# EAGLE library part DRF1278F (library HAB)
DRF1278F Module for SX1278 LoRA radio
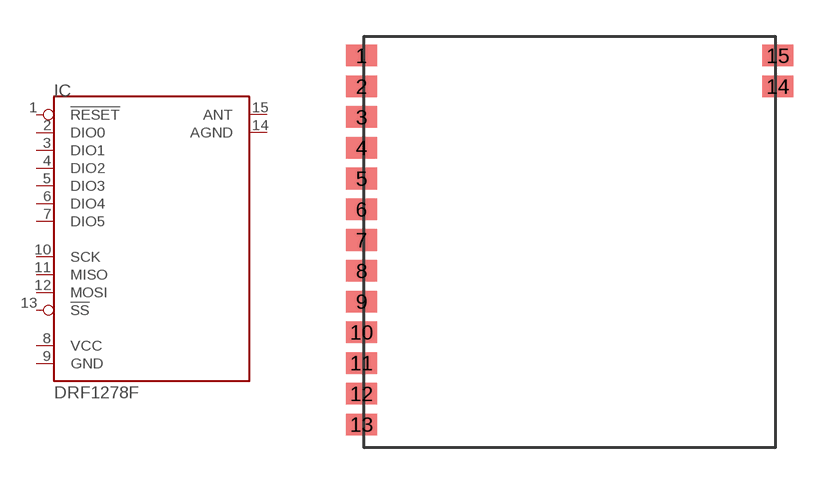
[diagram p16: symbol with the pads of DRF1278F; footprint DRF1278F]

Designator prefix IC

## DRF1278F  [DRF1278F]
1  !RESET!  in
2  DIO0
3  DIO1
4  DIO2
5  DIO3
6  DIO4
7  DIO5
8  VCC  pwr
9  GND  pwr
10  SCK  in
11  MISO  out
12  MOSI  in
13  !SS!  in
14  AGND  pwr
15  ANT  pas

## Footprint DRF1278F (pad centres in mm)
DRF1278F Module for SX1278 LoRA radio
smd 1.27 x 0.889: 1 -8.6,7.7; 2 -8.6,6.43; 3 -8.6,5.16; 4 -8.6,3.89; 5 -8.6,2.62; 6 -8.6,1.35; 7 -8.6,0.08; 8 -8.6,-1.19; 9 -8.6,-2.46; 10 -8.6,-3.73; 11 -8.6,-5; 12 -8.6,-6.27; 13 -8.6,-7.54; 14 8.6,6.43; 15 8.6,7.7